# Altium footprint library 691216510003S.PcbLib: 1 footprints
Each footprint in its own frame and in the unit in brackets; x right, y up, seen from the top. Pads: shape width x height; smd on the part's side, far side on the other; paste and mask are expansions set on the pad; w line width, h text height; cw(c..) or ccw(c..) is an arc to the next point about the centre after c.
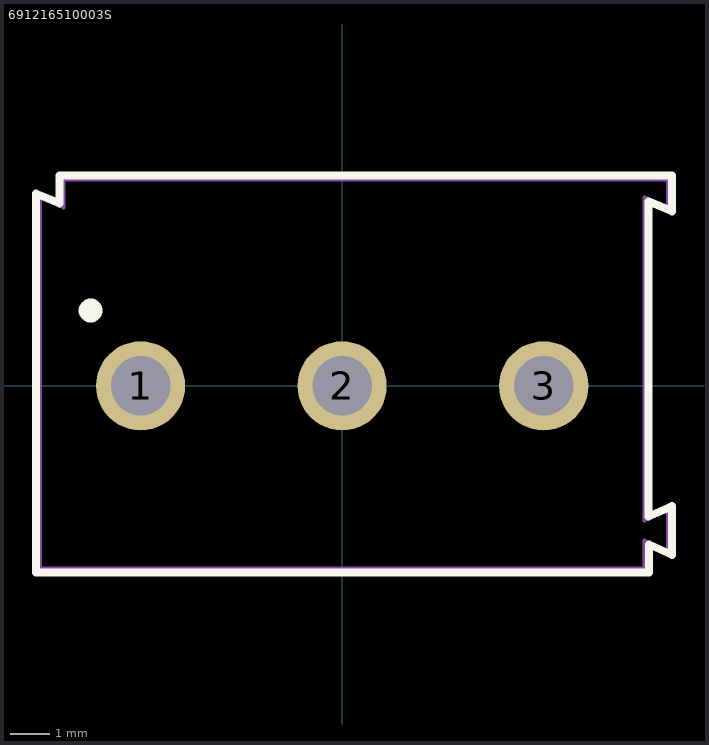
[diagram p0: the footprint, top view; thin cyan lines are the x and y axes]

## 691216510003S [mm]
pads (3):
  round 2.25 hole 1.5: 1(-5.08,0) 2(0,0) 3(5.08,0)
Top Overlay:
  circle w0.4: c-6.34,1.9 r0.1
  lines w0.2: -7.72,-4.7 -7.72,4.85 -7.12,4.6 -7.12,5.3 8.32,5.3 8.32,4.4 7.72,4.65 7.72,-3.29 8.32,-3.03 8.32,-4.26 7.74,-4 7.74,-4.7 -7.72,-4.7
Assembly Top:
  lines w0.1: -7.62,-4.6 -7.62,4.75 -7.02,4.5 -7.02,5.2 8.22,5.2 8.22,4.5 7.62,4.75 7.62,-3.39 8.22,-3.13 8.22,-4.16 7.62,-3.9 7.62,-4.6 -7.62,-4.6
3D body "step_temp.STEP": height 13.8, standoff -3.5, extent -7.92,-5.207 7.92,4.593